# Altium schematic symbol library liuxiaolong.SCHLIB: 44 symbols
Pins are listed as number, name and electrical type; pins without a type are passive.

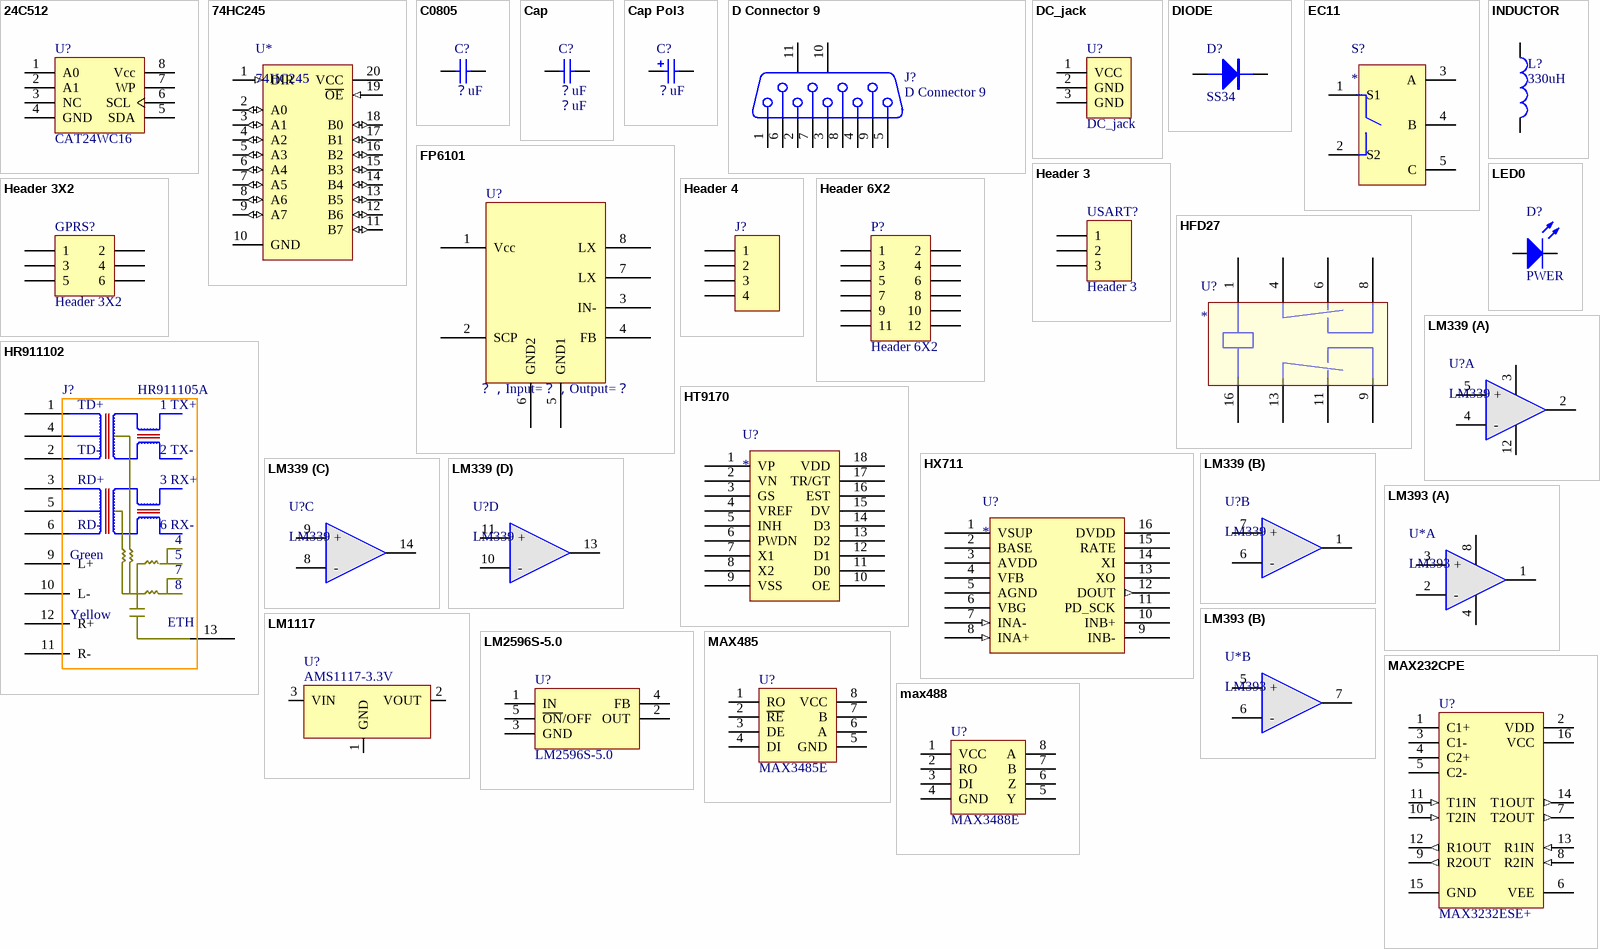
[diagram p0: symbols 24C512 to max488]

## 24C512
designator U?, comment CAT24WC16
EEPROM
footprint SOP8
pins: 1 A0, 2 A1, 3 NC, 4 GND, 5 SDA, 6 SCL, 7 WP, 8 Vcc

## 74HC245
designator U*
footprint TSSOP20 (Shrink Small Outline; 20 Leads; Body Width 4.4 mm; Pitch 0.65 mm)
pins: 1 DIR (in), 2 A0 (io), 3 A1 (io), 4 A2 (io), 5 A3 (io), 6 A4 (io), 7 A5 (io), 8 A6 (io), 9 A7 (io), 10 GND (power), 11 B7 (io), 12 B6 (io), 13 B5 (io), 14 B4 (io), 15 B3 (io), 16 B2 (io), 17 B1 (io), 18 B0 (io), 19 ~{OE} (in), 20 VCC (power)

## C0805
designator C?, comment ？uF
电容; Note: Footprint corresponds to dimensions for bulk cassette packaging. This case size has tightened tolerances.; Published: 17-Jul-2002; LatestRevisionDate: 19-Mar-2004; LatestRevisionNote: Silkscreen size reduced.; DatasheetDocument: Mar-2001; PackageDocument: Mar-2001; PackageReference: 0805; Publisher: Altium Limited; Code_JEITA: 0805; Code_IPC: 2012[0805]; ComponentLink2Description: Datasheet; Value: ？uF
footprint 0805
simulation model CAP (Capacitor)
signal-integrity model C0805
pins: 1, 2

## Cap
designator C?, comment ？uF
电容; Published: 8-Jun-2000; LatestRevisionDate: 17-Jul-2002; LatestRevisionNote: Re-released for DXP Platform.; PackageReference: RAD-0.3; Publisher: Altium Limited; Value: ？uF
footprint 0805
pins: 1, 2

## Cap Pol3
designator C?, comment ？uF
大容量电容; Published: 8-Jun-2000; LatestRevisionDate: 17-Jul-2002; LatestRevisionNote: Re-released for DXP Platform.; PackageReference: 1206+; Publisher: Altium Limited; Value: ？uF
footprint Ctan-1206
footprint 1206CC
pins: 1, 2
1 alternate drawing of the same symbol

## D Connector 9
designator J?
九针串口; PackageDocument: O; Positions: 9; Gender: Receptacle; Published: 15-Jun-2001; LatestRevisionDate: 17-Jul-2002; LatestRevisionNote: Re-released for DXP Platform.; DatasheetDocument: 1-Sep-1999; PackageReference: 788750; Publisher: Altium Limited; Orientation: Right Angle
footprint DSUB1.385-2H9 (Connector; D Subminiature; 9 Position; Right Angle; Pitch 1.385 mm)
signal-integrity model Connector
pins: 1, 2, 3, 4, 5, 6, 7, 8, 9, 10 MH1, 11 MH2

## DC_jack
designator U?
footprint DC_CONECT
pins: 1 VCC, 2 GND, 3 GND

## DIODE
designator D?, comment SS34
二极管
footprint 1809
footprint SMA IN5822
footprint DO-214AC
pins: 1 A, 2 K
2 alternate drawings of the same symbol

## EC11
designator S?
旋转编码器
pins: 1 S1, 2 S2, 3 A, 4 B, 5 C

## FP6101
designator U?, comment ？，Input=？，Output=？
电源管理芯片; Param: ？，Input=？，Output=？
footprint SOP8
pins: 1 Vcc, 2 SCP, 3 IN-, 4 FB, 5 GND1, 6 GND2, 7 LX, 8 LX

## Header 3
designator USART?
Header, 3-Pin; LatestRevisionDate: 17-Jul-2002; LatestRevisionNote: Re-released for DXP Platform.; Publisher: Altium Limited
footprint HDR1X3 (Connector; Header; 3 Position)
signal-integrity model Connector
pins: 1, 2, 3

## Header 3X2
designator GPRS?
Header, 3-Pin, Dual row; LatestRevisionDate: 17-Jul-2002; LatestRevisionNote: Re-released for DXP Platform.; Publisher: Altium Limited
footprint HDR2X3 (Connector; Header; 3x2 Position)
signal-integrity model Connector
pins: 1, 2, 3, 4, 5, 6

## Header 4
designator J?  (value not drawn)
Header, 4-Pin; LatestRevisionDate: 17-Jul-2002; LatestRevisionNote: Re-released for DXP Platform.; Publisher: Altium Limited
footprint HDR1X4 (Connector; Header; 4 Position)
signal-integrity model Connector
footprint 4PIN
footprint con-5mm-4
pins: 1, 2, 3, 4

## Header 6X2
designator P?
Header, 6-Pin, Dual row; LatestRevisionDate: 17-Jul-2002; LatestRevisionNote: Re-released for DXP Platform.; Publisher: Altium Limited
footprint HDR2X6 (Connector; Header; 6x2 Position)
signal-integrity model Connector
pins: 1, 2, 3, 4, 5, 6, 7, 8, 9, 10, 11, 12

## HFD27
designator U?
宏发继电器; 厂家: 宏发; Footprint: HDF27
footprint HDF27
pins: 1, 4, 6, 8, 9, 11, 13, 16

## HR911102
designator J?, comment HR911105A
网口
footprint HR911105A
footprint HR911105a (HR911105A)
pins: 1, 2, 3, 4, 5, 6, 9 L+, 10 L-, 11 R-, 12 R+, 13
text: TD+; 1 TX+; TD-; 2 TX-; RD+; 3 RX+; RD-; 6 RX-; Green; 7; 8; Yellow; ETH

## HT9170
designator U?
双音多频; Footprint: SOIC-18
footprint SOIC-18
pins: 1 VP, 2 VN, 3 GS, 4 VREF, 5 INH, 6 PWDN, 7 X1, 8 X2, 9 VSS, 10 OE, 11 D0, 12 D1, 13 D2, 14 D3, 15 DV, 16 EST, 17 TR/GT, 18 VDD

## HX711
designator U?
AD转换
pins: 1 VSUP, 2 BASE, 3 AVDD, 4 VFB, 5 AGND, 6 VBG, 7 INA- (in), 8 INA+ (in), 9 INB-, 10 INB+, 11 PD_SCK, 12 DOUT (out), 13 XO, 14 XI, 15 RATE, 16 DVDD (power)

## INDUCTOR
designator L?, comment 330uH
footprint CDR74
footprint INDU123-H
pins: 1, 2
2 alternate drawings of the same symbol

## LED0
designator D?, comment PWER
Typical INFRARED GaAs LED; Published: 8-Jun-2000; LatestRevisionDate: 08-Jul-2005; LatestRevisionNote: Mech Layer 1 removed.; PackageReference: LED2PIN; Publisher: Altium Limited
simulation model LED0 (Diode)
footprint LED0805+
pins: 1 A, 2 K

## LM339
designator U?
比较器
footprint DIP-14 (Footprint not found)
part A pins: 2 OUT2, 3 VCC (power), 4 -, 5 +, 12 GND (power)
part B pins: 1 OUT2, 6 -, 7 +
part C pins: 8 -, 9 +, 14 OUT2
part D pins: 10 -, 11 +, 13 OUT2

## LM393
designator U*
比较器，2
footprint DIP-8 (Footprint not found)
part A pins: 1 OUT1, 2 -, 3 +, 4 GND (power), 8 VCC (power)
part B pins: 5 +, 6 -, 7 OUT2

## LM1117
designator U?, comment AMS1117-3.3V
footprint SOT-223
pins: 1 GND, 2 VOUT, 3 VIN

## LM2596S-5.0
designator U?
Simple Switcher Power Converter 150 kHz 3A Step Down Voltage Regulator; Note: Tab is connected to GND; Published: 15-Apr-2002; DatasheetVersion: Dec-1997; PackageReference: TS5B; Publisher: Altium Limited; PackageDescription: D2-PAK; 5 Leads; Body 14.4 (inc. leads) x 10.4 mm (LxW max); ComponentLink1Description: Manufacturer Link; ComponentLink1URL: http://www.national.com/; ComponentLink2Description: Datasheet; ComponentLink2URL: http://www.national.com/ds.cgi/LM/LM2596.pdf; ComponentLink3Description: URL Link1; ComponentLink3URL: http://www.national.com/pf/LM/LM2596.html
footprint TO-263
pins: 1 IN (power), 2 OUT (power), 3 GND (power), 4 FB, 5 ~{ON}/OFF
2 alternate drawings of the same symbol

## MAX232CPE
designator U?, comment MAX3232ESE+
+5V Powered RS-232 Driver/Receiver; Published: 16-Jan-2001; LatestRevisionDate: 06-Jun-2005; LatestRevisionNote: Stylized 3D Model Added.; DatasheetVersion: Apr-1992; PackageVersion: 1997; PackageReference: PE16A; Publisher: Altium Limited; PackageDescription: DIP; 16 Leads; Row Spacing 7.62 mm; Pitch 2.54 mm; Code_JEDEC: MS-001-BB; ComponentLink1Description: Manufacturer Link; ComponentLink1URL: http://www.maxim-ic.com/; ComponentLink2Description: Datasheet; ComponentLink2URL: http://pdfserv.maxim-ic.com/en/ds/MAX220-MAX249.pdf
3D model PE16 (DIP; 16 Leads; Row Spacing 7.62 mm; Pitch 2.54 mm)
footprint SO-16
pins: 1 C1+, 2 VDD (power), 3 C1-, 4 C2+, 5 C2-, 6 VEE (power), 7 T2OUT (out), 8 R2IN (in), 9 R2OUT (out), 10 T2IN (in), 11 T1IN (in), 12 R1OUT (out), 13 R1IN (in), 14 T1OUT (out), 15 GND, 16 VCC (power)

## MAX485
designator U?, comment MAX3485E
485接口芯片
footprint SOP8
pins: 1 RO, 2 ~{RE}, 3 DE, 4 DI, 5 GND, 6 A, 7 B, 8 VCC

## max488
designator U?, comment MAX3488E
422接口芯片
footprint SOP8
pins: 1 VCC, 2 RO, 3 DI, 4 GND, 5 Y, 6 Z, 7 B, 8 A

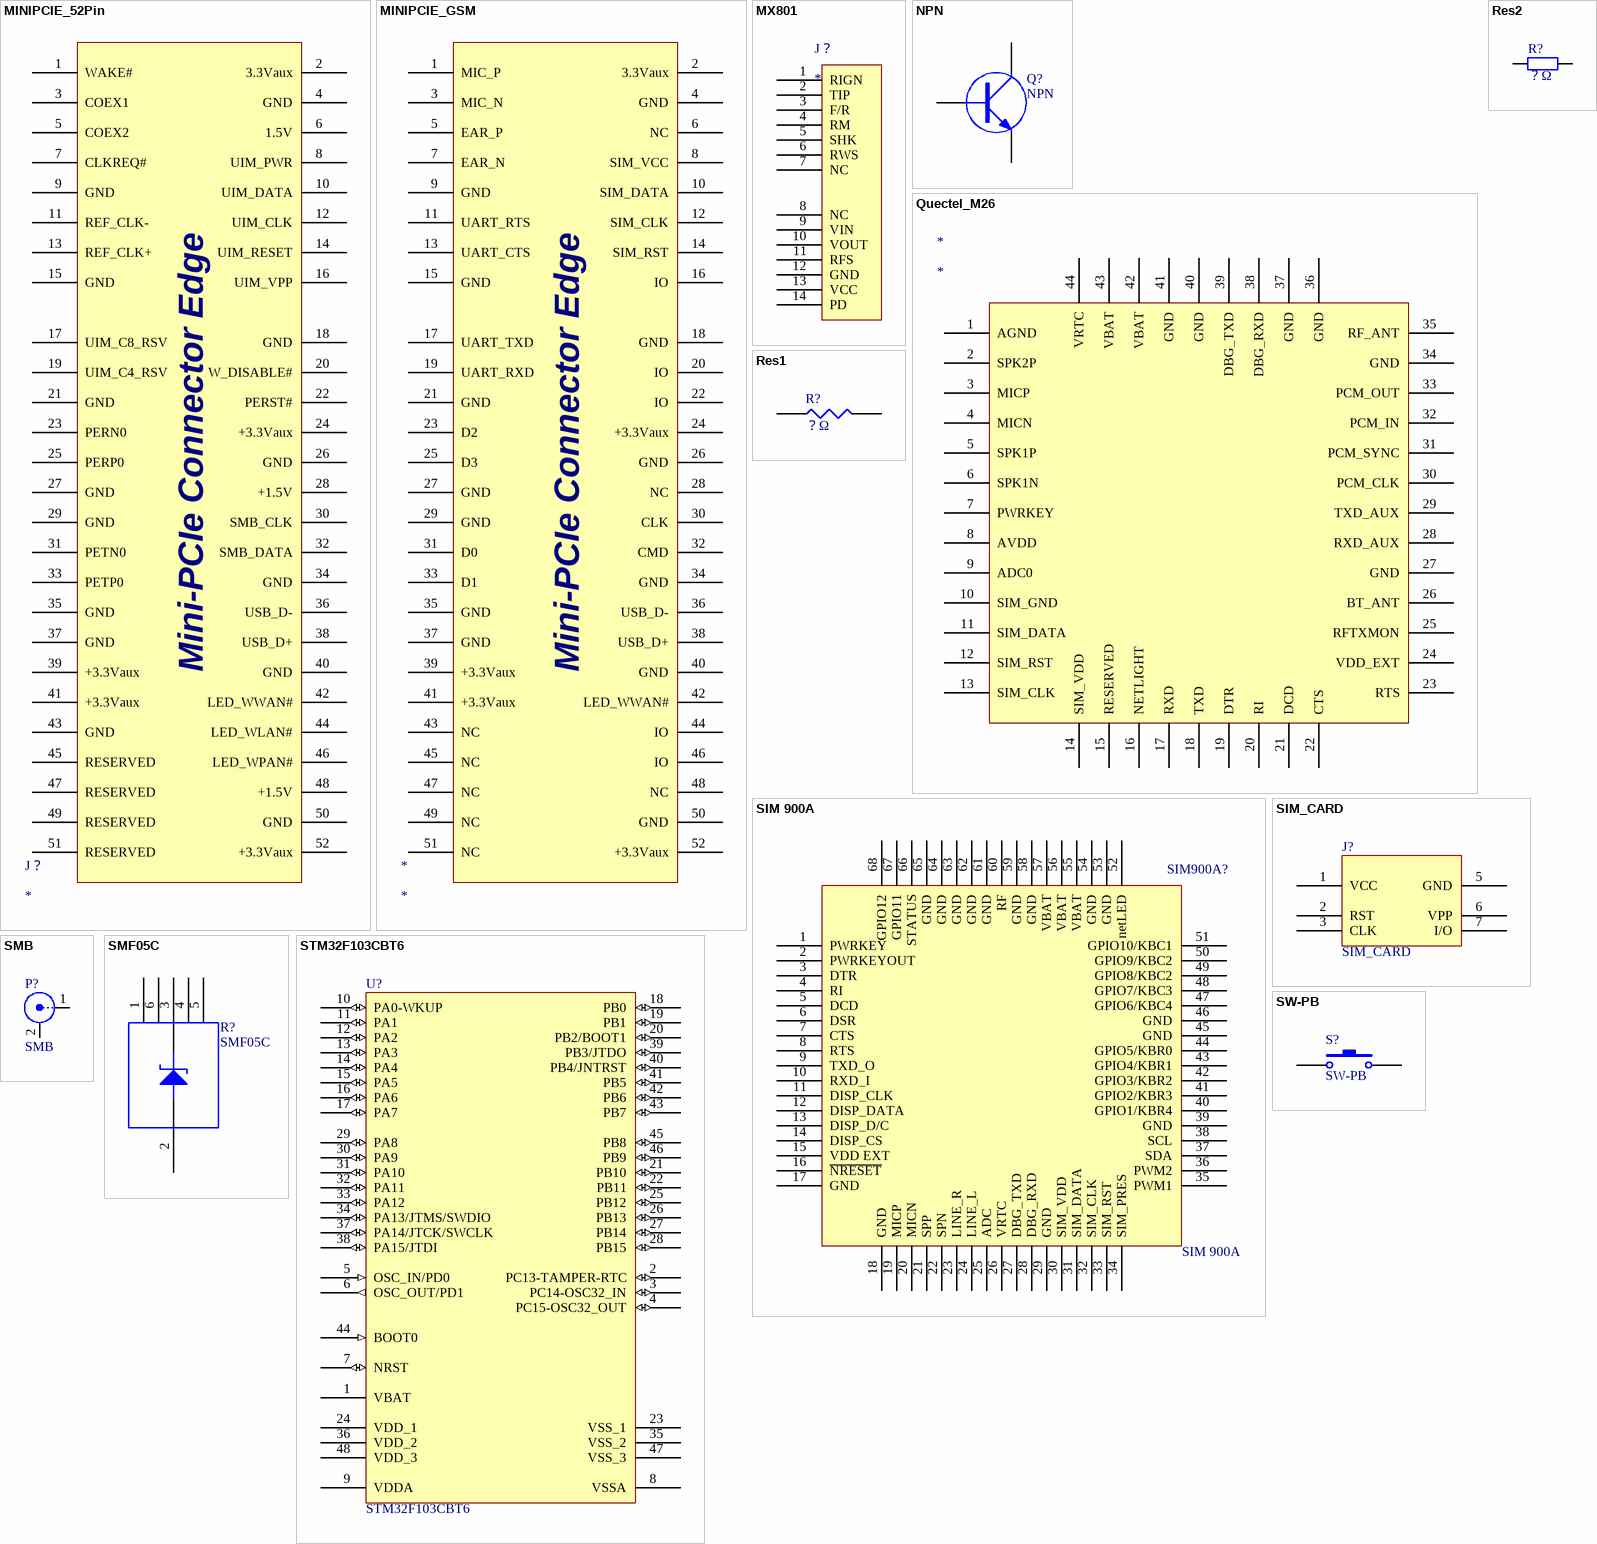
[diagram p1: symbols MINIPCIE_52Pin to SW-PB]

## MINIPCIE_52Pin
designator J？
PCIE接口座，连接器
pins: 1 WAKE#, 2 3.3Vaux, 3 COEX1, 4 GND, 5 COEX2, 6 1.5V, 7 CLKREQ#, 8 UIM_PWR, 9 GND, 10 UIM_DATA, 11 REF_CLK-, 12 UIM_CLK, 13 REF_CLK+, 14 UIM_RESET, 15 GND, 16 UIM_VPP, 17 UIM_C8_RSV, 18 GND, 19 UIM_C4_RSV, 20 W_DISABLE#, 21 GND, 22 PERST#, 23 PERN0, 24 +3.3Vaux, 25 PERP0, 26 GND, 27 GND, 28 +1.5V, 29 GND, 30 SMB_CLK, 31 PETN0, 32 SMB_DATA, 33 PETP0, 34 GND, 35 GND, 36 USB_D-, 37 GND, 38 USB_D+, 39 +3.3Vaux, 40 GND, 41 +3.3Vaux, 42 LED_WWAN#, 43 GND, 44 LED_WLAN#, 45 RESERVED, 46 LED_WPAN#, 47 RESERVED, 48 +1.5V, 49 RESERVED, 50 GND, 51 RESERVED, 52 +3.3Vaux
text: Mini-PCIe Connector Edge

## MINIPCIE_GSM
designator *
pins: 1 MIC_P, 2 3.3Vaux, 3 MIC_N, 4 GND, 5 EAR_P, 6 NC, 7 EAR_N, 8 SIM_VCC, 9 GND, 10 SIM_DATA, 11 UART_RTS, 12 SIM_CLK, 13 UART_CTS, 14 SIM_RST, 15 GND, 16 IO, 17 UART_TXD, 18 GND, 19 UART_RXD, 20 IO, 21 GND, 22 IO, 23 D2, 24 +3.3Vaux, 25 D3, 26 GND, 27 GND, 28 NC, 29 GND, 30 CLK, 31 D0, 32 CMD, 33 D1, 34 GND, 35 GND, 36 USB_D-, 37 GND, 38 USB_D+, 39 +3.3Vaux, 40 GND, 41 +3.3Vaux, 42 LED_WWAN#, 43 NC, 44 IO, 45 NC, 46 IO, 47 NC, 48 NC, 49 NC, 50 GND, 51 NC, 52 +3.3Vaux
text: Mini-PCIe Connector Edge

## MX801
designator J？
电话线振铃模块; Footprint: MX801
footprint MX801
pins: 1 RIGN, 2 TIP, 3 F/R, 4 RM, 5 SHK, 6 RWS, 7 NC, 8 NC, 9 VIN, 10 VOUT, 11 RFS, 12 GND, 13 VCC, 14 PD

## NPN
designator Q?
NPN Transistor
footprint SOT-23
pins: 1 B, 2 E, 3 C

## Quectel_M26
designator *
pins: 1 AGND, 2 SPK2P, 3 MICP, 4 MICN, 5 SPK1P, 6 SPK1N, 7 PWRKEY, 8 AVDD, 9 ADC0, 10 SIM_GND, 11 SIM_DATA, 12 SIM_RST, 13 SIM_CLK, 14 SIM_VDD, 15 RESERVED, 16 NETLIGHT, 17 RXD, 18 TXD, 19 DTR, 20 RI, 21 DCD, 22 CTS, 23 RTS, 24 VDD_EXT, 25 RFTXMON, 26 BT_ANT, 27 GND, 28 RXD_AUX, 29 TXD_AUX, 30 PCM_CLK, 31 PCM_SYNC, 32 PCM_IN, 33 PCM_OUT, 34 GND, 35 RF_ANT, 36 GND, 37 GND, 38 DBG_RXD, 39 DBG_TXD, 40 GND, 41 GND, 42 VBAT, 43 VBAT, 44 VRTC

## Res1
designator R?, comment ？Ω
电阻; Value: ？Ω
footprint 0805
pins: 1, 2

## Res2
designator R?, comment ？Ω
电阻; Published: 8-Jun-2000; LatestRevisionDate: 17-Jul-2002; LatestRevisionNote: Re-released for DXP Platform.; PackageReference: 1206; Publisher: Altium Limited; Value: ？Ω
footprint AXIAL-0.4 (Resistor; 2 Leads)
footprint 1206
footprint 0805
pins: 1, 2

## SIM 900A
designator SIM900A?
GPRS模块
footprint SIM900A
pins: 1 PWRKEY, 2 PWRKEYOUT, 3 DTR, 4 RI, 5 DCD, 6 DSR, 7 CTS, 8 RTS, 9 TXD_O, 10 RXD_I, 11 DISP_CLK, 12 DISP_DATA, 13 DISP_D/C, 14 DISP_CS, 15 VDD EXT, 16 ~{NRESET}, 17 GND, 18 GND, 19 MICP, 20 MICN, 21 SPP, 22 SPN, 23 LINE_R, 24 LINE_L, 25 ADC, 26 VRTC, 27 DBG_TXD, 28 DBG_RXD, 29 GND, 30 SIM_VDD, 31 SIM_DATA, 32 SIM_CLK, 33 SIM_RST, 34 SIM_PRES, 35 PWM1, 36 PWM2, 37 SDA, 38 SCL, 39 GND, 40 GPIO1/KBR4, 41 GPIO2/KBR3, 42 GPIO3/KBR2, 43 GPIO4/KBR1, 44 GPIO5/KBR0, 45 GND, 46 GND, 47 GPIO6/KBC4, 48 GPIO7/KBC3, 49 GPIO8/KBC2, 50 GPIO9/KBC2, 51 GPIO10/KBC1, 52 netLED, 53 GND, 54 GND, 55 VBAT, 56 VBAT, 57 VBAT, 58 GND, 59 GND, 60 RF, 61 GND, 62 GND, 63 GND, 64 GND, 65 GND, 66 STATUS, 67 GPIO11, 68 GPIO12

## SIM_CARD
designator J?
SIM卡，大卡
footprint SIM_CARD
footprint SIM_CARD
pins: 1 VCC, 2 RST, 3 CLK, 5 GND, 6 VPP, 7 I/O

## SMB
designator P?
SMB Straight Connector; LatestRevisionDate: 17-Jul-2002; LatestRevisionNote: Re-released for DXP Platform.; Publisher: Altium Limited
footprint SMB_V-RJ45 (Connector; SMB Straight)
signal-integrity model Connector
pins: 1 X, 2 Y

## SMF05C
designator R?
ESD
footprint SOT-363
pins: 1 A, 1, 2 K, 2, 3, 4, 5, 6

## STM32F103CBT6
designator U?
STM32 ARM-based 32-bit MCU with 128 Kbytes Flash, 48-pin LQFP, Industrial Temperature; Published: 30-May-2008; DatasheetVersion: rev6, Mar-2008; PackageVersion: Mar-2008; PackageReference: LQFP48; Publisher: Altium Limited; PackageDescription: 48-Pin Low-Profile Quad Flat Pack, 7 x 7 mm Body, 0.5 mm Pitch (LQFP48); ComponentLink1Description: Manufacturer Link; ComponentLink1URL: www.st.com/stm32; ComponentLink2Description: Datasheet; ComponentLink2URL: http://www.st.com/stonline/products/literature/ds/13587.pdf
footprint LQFP48
footprint LQFP48_L (Footprint not found)
footprint LQFP48_M (Footprint not found)
pins: 1 VBAT (power), 2 PC13-TAMPER-RTC (io), 3 PC14-OSC32_IN (io), 4 PC15-OSC32_OUT (io), 5 OSC_IN/PD0 (in), 6 OSC_OUT/PD1 (out), 7 NRST (io), 8 VSSA (power), 9 VDDA (power), 10 PA0-WKUP (io), 11 PA1 (io), 12 PA2 (io), 13 PA3 (io), 14 PA4 (io), 15 PA5 (io), 16 PA6 (io), 17 PA7 (io), 18 PB0 (io), 19 PB1 (io), 20 PB2/BOOT1 (io), 21 PB10 (io), 22 PB11 (io), 23 VSS_1 (power), 24 VDD_1 (power), 25 PB12 (io), 26 PB13 (io), 27 PB14 (io), 28 PB15 (io), 29 PA8 (io), 30 PA9 (io), 31 PA10 (io), 32 PA11 (io), 33 PA12 (io), 34 PA13/JTMS/SWDIO (io), 35 VSS_2 (power), 36 VDD_2 (power), 37 PA14/JTCK/SWCLK (io), 38 PA15/JTDI (io), 39 PB3/JTDO (io), 40 PB4/JNTRST (io), 41 PB5 (io), 42 PB6 (io), 43 PB7 (io), 44 BOOT0 (in), 45 PB8 (io), 46 PB9 (io), 47 VSS_3 (power), 48 VDD_3 (power)

## SW-PB
designator S?
Switch; Published: 24-Mar-1999; LatestRevisionDate: 17-Jul-2002; LatestRevisionNote: Re-released for DXP Platform.; PackageReference: SPST-2; Publisher: Altium Limited; PackageDescription: Switch; 2 Leads
footprint HDR1X2 (Connector; Header; 2 Position)
pins: 1, 2

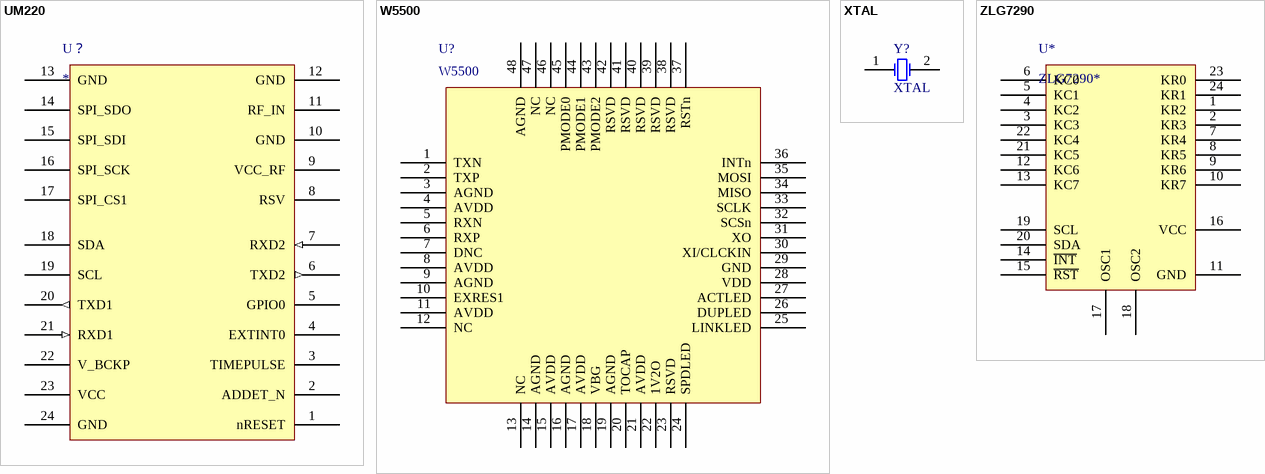
[diagram p2: symbols UM220 to ZLG7290]

## UM220
designator U？
北斗/GPS
pins: 1 nRESET, 2 ADDET_N, 3 TIMEPULSE, 4 EXTINT0, 5 GPIO0, 6 TXD2 (out), 7 RXD2 (in), 8 RSV, 9 VCC_RF, 10 GND, 11 RF_IN, 12 GND, 13 GND, 14 SPI_SDO, 15 SPI_SDI, 16 SPI_SCK, 17 SPI_CS1, 18 SDA, 19 SCL, 20 TXD1 (out), 21 RXD1 (in), 22 V_BCKP, 23 VCC, 24 GND

## W5500
designator U?
W5500以太网芯片
footprint LQFP48
pins: 1 TXN, 2 TXP, 3 AGND, 4 AVDD, 5 RXN, 6 RXP, 7 DNC, 8 AVDD, 9 AGND, 10 EXRES1, 11 AVDD, 12 NC, 13 NC, 14 AGND, 15 AVDD, 16 AGND, 17 AVDD, 18 VBG, 19 AGND, 20 TOCAP, 21 AVDD, 22 1V2O, 23 RSVD, 24 SPDLED, 25 LINKLED, 26 DUPLED, 27 ACTLED, 28 VDD, 29 GND, 30 XI/CLCKIN, 31 XO, 32 SCSn, 33 SCLK, 34 MISO, 35 MOSI, 36 INTn, 37 RSTn, 38 RSVD, 39 RSVD, 40 RSVD, 41 RSVD, 42 RSVD, 43 PMODE2, 44 PMODE1, 45 PMODE0, 46 NC, 47 NC, 48 AGND
2 alternate drawings of the same symbol

## XTAL
designator Y?
Crystal Oscillator; Published: 8-Jun-2000; LatestRevisionDate: 17-Jul-2002; LatestRevisionNote: Re-released for DXP Platform.; PackageReference: R38; Publisher: Altium Limited; PackageDescription: Crystal, Thru-Hole; 2 Leads; Body 3.1 x 8.2 mm (Dia.xH)
footprint R38 (Crystal, Thru-Hole; 2 Leads; Body 3.1 x 8.2 mm (Dia.xH))
simulation model XTAL (Spice Subcircuit)
pins: 1 OSC1, 2 OSC2

## ZLG7290
designator U*, comment ZLG7290*
按键LED驱动芯片
pins: 1 KR2, 2 KR3, 3 KC3, 4 KC2, 5 KC1, 6 KC0, 7 KR4, 8 KR5, 9 KR6, 10 KR7, 11 GND, 12 KC6, 13 KC7, 14 ~{INT}, 15 ~{RST}, 16 VCC, 17 OSC1, 18 OSC2, 19 SCL, 20 SDA, 21 KC5, 22 KC4, 23 KR0, 24 KR1